# Altium footprint library Diode.PcbLib: 4 footprints
Each footprint in its own frame and in the unit in brackets; x right, y up, seen from the top. Pads: shape width x height; smd on the part's side, far side on the other; paste and mask are expansions set on the pad; w line width, h text height; cw(c..) or ccw(c..) is an arc to the next point about the centre after c.
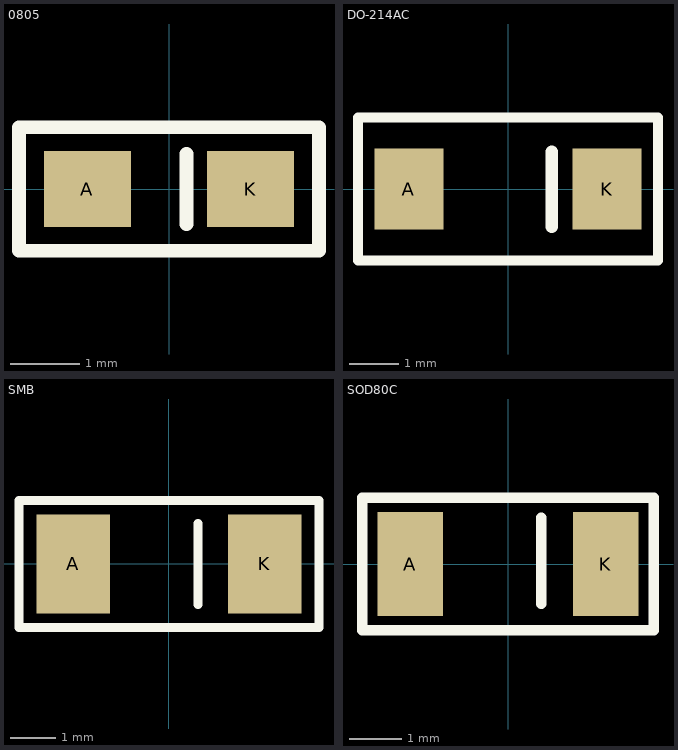
[diagram p0: the footprints below, top view; thin cyan lines are the x and y axes]

## 0805 [mm]
pads (2):
  rect 1.25x1.1 smd: A(-1.175,0) K(1.175,0)
Top Overlay:
  lines w0.2: 0.254,-0.508 0.254,0.508 ; -2.159,-0.889 -2.159,0.345 -2.159,0.889 2.159,0.889 2.159,-0.889 -2.159,-0.889

## DO-214AC [mm]
pads (2):
  rect 1.4x1.64 smd: A(-2.015,0) K(2.015,0)
Top Overlay:
  lines w0.2: -3.048,-1.45 3.048,-1.45 3.048,1.45 -3.048,1.45 -3.048,-0.153 -3.048,-1.45
  lines w0.254: 0.889,-0.762 0.889,0.762

## SMB [mm]
pads (2):
  rect 1.62x2.18 smd: A(-2.11,0) K(2.11,0)
Top Overlay:
  lines w0.2: 0.635,-0.889 0.635,0.889 ; -3.302,-1.397 3.302,-1.397 3.302,1.397 -3.302,1.397 -3.302,1.028 -3.302,-1.397

## SOD80C [mm]
pads (2):
  rect 1.25x2 smd: A(-1.875,0) K(1.875,0)
Top Overlay:
  lines w0.2: 0.635,-0.762 0.635,0.889 ; -2.794,-1.27 2.794,-1.27 2.794,1.27 -2.794,1.27 -2.794,0.794 -2.794,-1.27